# Altium schematic symbol library smarthome.SchLib: 1 symbol
Pins are listed as number, name and electrical type; pins without a type are passive.

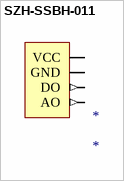
[diagram p0: symbol SZH-SSBH-011]

## SZH-SSBH-011
designator *
pins: 1 VCC (power), 2 GND (power), 3 DO (out), 4 AO (out)